# EAGLE library part MMZ25332BT1 (library My_Library)
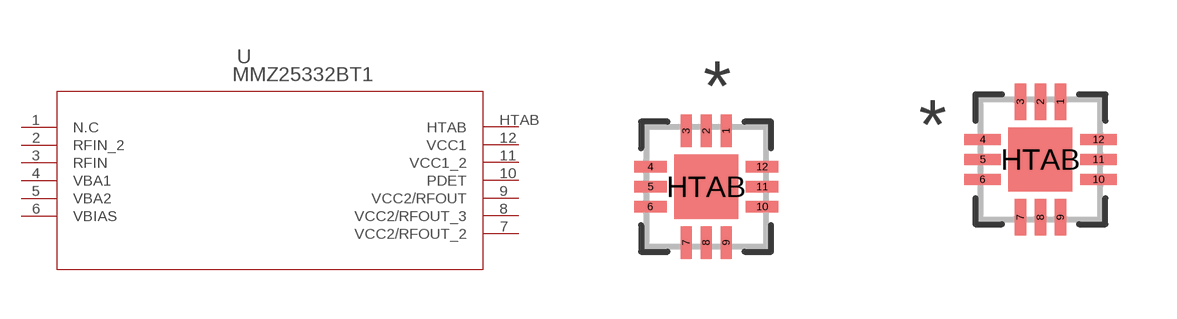
[diagram p25: symbol with the pads of QFN12_FRE; footprints QFN12_FRE, QFN12_FRE-M]

Designator prefix U

## MMZ25332BT1 (COPYRIGHT: Copyright (C) 2024 Ultra Librarian. All rights reserved.; MANUFACTURER_PART_NUMBER: MMZ25332BT1; MFR_NAME: NXP)  [QFN12_FRE]
1  N.C  pas
2  RFIN_2  in
3  RFIN  in
4  VBA1
5  VBA2
6  VBIAS
7  VCC2/RFOUT_2
8  VCC2/RFOUT_3
9  VCC2/RFOUT
10  PDET
11  VCC1_2  pwr
12  VCC1  pwr
HTAB  HTAB  pas

## MMZ25332BT1QFN12_FRE-M (COPYRIGHT: Copyright (C) 2024 Ultra Librarian. All rights reserved.; MANUFACTURER_PART_NUMBER: MMZ25332BT1; MFR_NAME: NXP)  [QFN12_FRE-M]
Pads as for QFN12_FRE

## MMZ25332BT1QFN12_FRE-L (COPYRIGHT: Copyright (C) 2024 Ultra Librarian. All rights reserved.; MANUFACTURER_PART_NUMBER: MMZ25332BT1; MFR_NAME: NXP)  [QFN12_FRE-L]
Pads as for QFN12_FRE

## Footprint QFN12_FRE (pad centres in mm)
smd 0.279 x 0.813: 1 0.5,1.397; 2 0,1.397; 3 -0.5,1.397; 7 -0.5,-1.397; 8 0,-1.397; 9 0.5,-1.397
smd 0.813 x 0.279: 4 -1.397,0.5; 5 -1.397,0; 6 -1.397,-0.5; 10 1.397,-0.5; 11 1.397,0; 12 1.397,0.5
smd 1.6 x 1.6: HTAB 0,0

## Footprint QFN12_FRE-M (pad centres in mm)
smd 0.279 x 0.914: 1 0.5,1.448; 2 0,1.448; 3 -0.5,1.448; 7 -0.5,-1.448; 8 0,-1.448; 9 0.5,-1.448
smd 0.914 x 0.279: 4 -1.448,0.5; 5 -1.448,0; 6 -1.448,-0.5; 10 1.448,-0.5; 11 1.448,0; 12 1.448,0.5
smd 1.6 x 1.6: HTAB 0,0

## Footprint QFN12_FRE-L (pad centres in mm)
smd 0.279 x 0.711: 1 0.5,1.346; 2 0,1.346; 3 -0.5,1.346; 7 -0.5,-1.346; 8 0,-1.346; 9 0.5,-1.346
smd 0.711 x 0.279: 4 -1.346,0.5; 5 -1.346,0; 6 -1.346,-0.5; 10 1.346,-0.5; 11 1.346,0; 12 1.346,0.5
smd 1.6 x 1.6: HTAB 0,0